# Altium footprint library Connector_Wuerth.PcbLib: 46 footprints (part 1 of 3)
Each footprint in its own frame and in the unit in brackets; x right, y up, seen from the top. Pads: shape width x height; smd on the part's side, far side on the other; paste and mask are expansions set on the pad; w line width, h text height; cw(c..) or ccw(c..) is an arc to the next point about the centre after c.
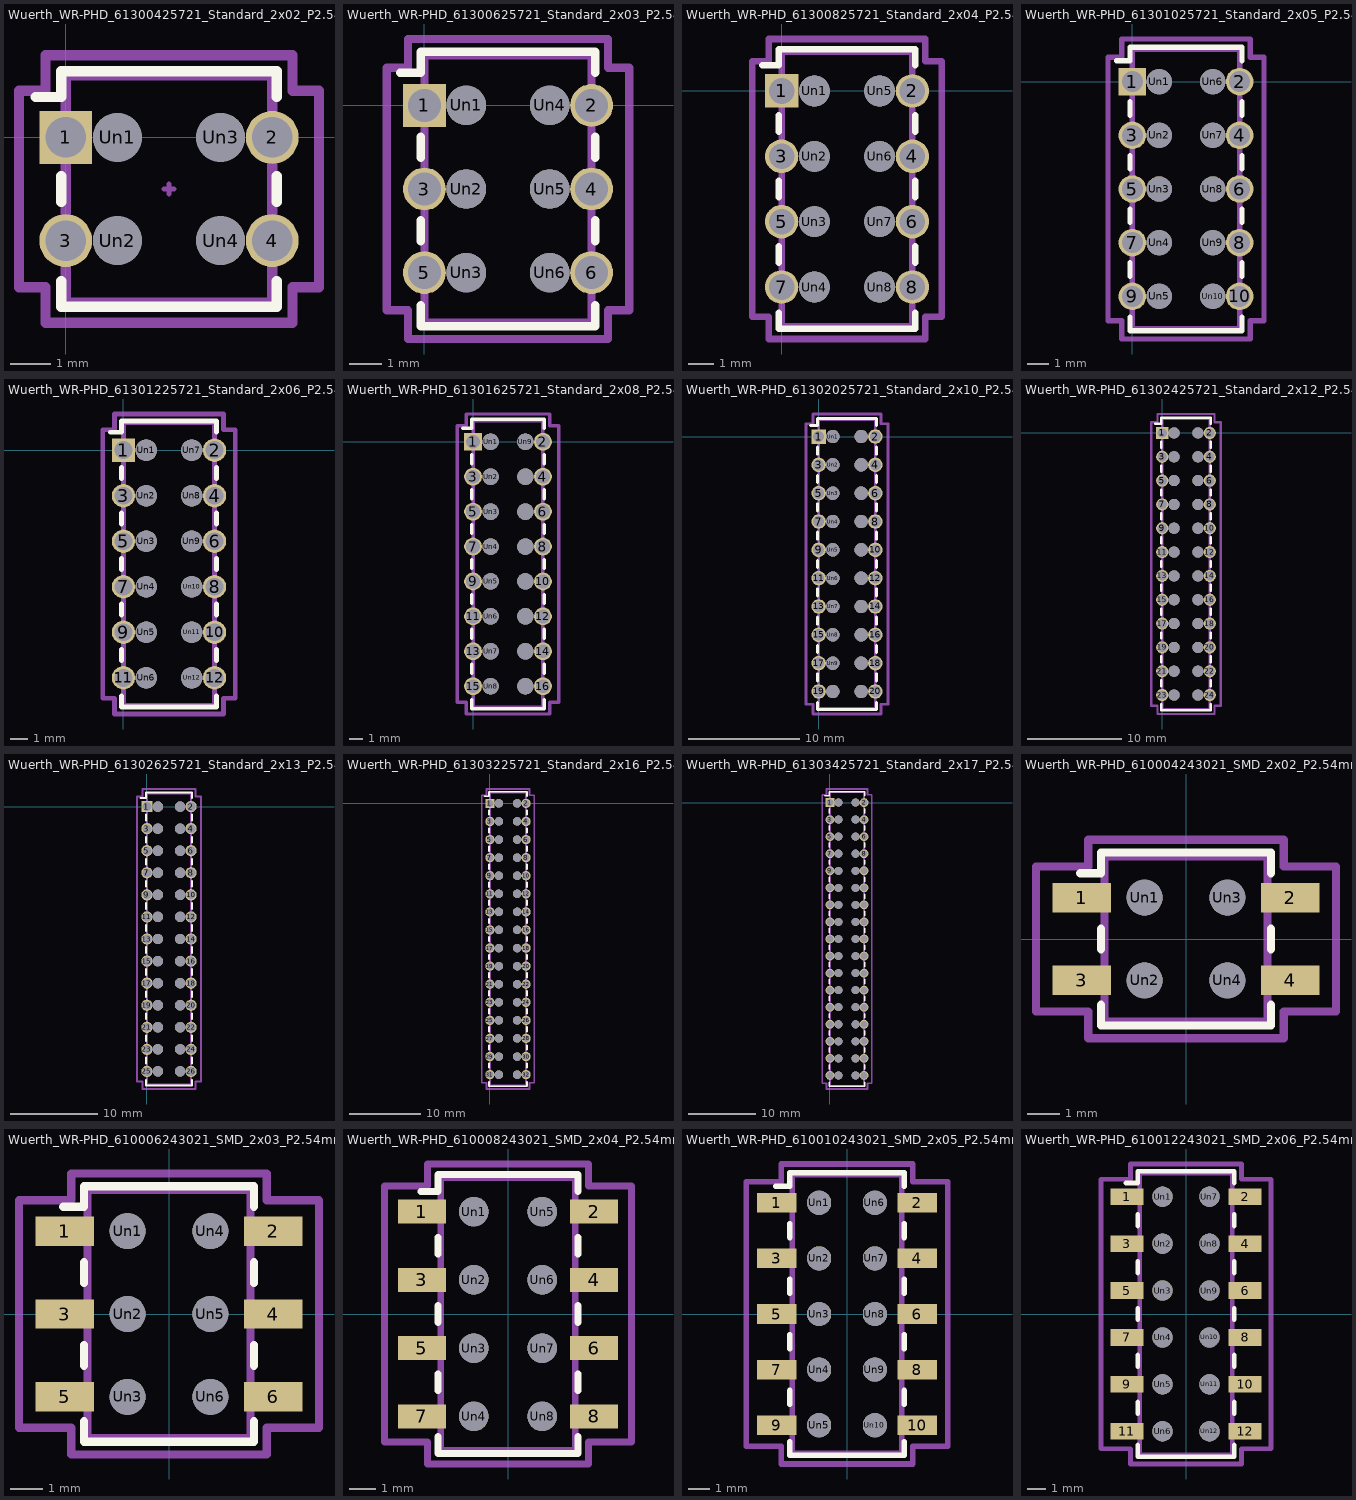
[diagram p0: the footprints below, top view; thin cyan lines are the x and y axes]

## Wuerth_WR-PHD_61300425721_Standard_2x02_P2.54mm_Vertical [mm]
pads (8):
  rect 1.3x1.3 hole 1: 1(0,0)
  round 1.3 hole 1: 2(5.08,0) 3(0,-2.54) 4(5.08,-2.54)
  round 1.2 hole 1.2: Un1(1.27,0) Un2(1.27,-2.54) Un3(3.81,0) Un4(3.81,-2.54)
F.SilkS:
  lines w0.254: -0.745,0.995 -0.11,0.995 -0.11,1.63 5.19,1.63 5.19,0.995 ; -0.11,-3.535 -0.11,-4.17 5.19,-4.17 5.19,-3.535 ; -0.11,-1.587 -0.11,-0.953 ; 5.19,-1.587 5.19,-0.953
Top Component Center:
  lines w0.127: 2.413,-1.27 2.667,-1.27 ; 2.54,-1.397 2.54,-1.143
Top Assembly:
  lines w0.254: 0,-4.06 5.08,-4.06 5.08,1.52 0,1.52 0,-4.06
  text "'.Designator'" at -1.507,-0.02 h1
Top Courtyard:
  lines w0.254: -1.15,-3.69 -0.5,-3.69 -0.5,-4.56 5.58,-4.56 5.58,-3.69 6.23,-3.69 6.23,1.15 5.58,1.15 5.58,2.02 -0.5,2.02 -0.5,1.15 -1.15,1.15 -1.15,-3.69
Top Designator:
  text ".Designator" at -5.228,-1.778 h1.52

## Wuerth_WR-PHD_61300625721_Standard_2x03_P2.54mm_Vertical [mm]
pads (12):
  rect 1.3x1.3 hole 1: 1(0,0)
  round 1.3 hole 1: 2(5.08,0) 3(0,-2.54) 4(5.08,-2.54) 5(0,-5.08) 6(5.08,-5.08)
  round 1.2 hole 1.2: Un1(1.27,0) Un2(1.27,-2.54) Un3(1.27,-5.08) Un4(3.81,0) Un5(3.81,-2.54) Un6(3.81,-5.08)
F.SilkS:
  lines w0.254: -0.745,0.995 -0.11,0.995 -0.11,1.63 5.19,1.63 5.19,0.995 ; -0.11,-6.075 -0.11,-6.71 5.19,-6.71 5.19,-6.075 ; -0.11,-4.127 -0.11,-3.492 ; -0.11,-1.587 -0.11,-0.953 ; 5.19,-4.127 5.19,-3.492 ; 5.19,-1.587 5.19,-0.953
Top Assembly:
  lines w0.254: 0,-6.6 5.08,-6.6 5.08,1.52 0,1.52 0,-6.6
  text "'.Designator'" at -1.507,-0.02 h1
Top Courtyard:
  lines w0.254: -1.15,-6.23 -0.5,-6.23 -0.5,-7.1 5.58,-7.1 5.58,-6.23 6.23,-6.23 6.23,1.15 5.58,1.15 5.58,2.02 -0.5,2.02 -0.5,1.15 -1.15,1.15 -1.15,-6.23
Top Designator:
  text ".Designator" at -5.228,-3.048 h1.52

## Wuerth_WR-PHD_61300825721_Standard_2x04_P2.54mm_Vertical [mm]
pads (16):
  rect 1.3x1.3 hole 1: 1(0,0)
  round 1.3 hole 1: 2(5.08,0) 3(0,-2.54) 4(5.08,-2.54) 5(0,-5.08) 6(5.08,-5.08) 7(0,-7.62) 8(5.08,-7.62)
  round 1.2 hole 1.2: Un1(1.27,0) Un2(1.27,-2.54) Un3(1.27,-5.08) Un4(1.27,-7.62) Un5(3.81,0) Un6(3.81,-2.54) Un7(3.81,-5.08) Un8(3.81,-7.62)
F.SilkS:
  lines w0.254: -0.745,0.995 -0.11,0.995 -0.11,1.63 5.19,1.63 5.19,0.995 ; -0.11,-8.615 -0.11,-9.25 5.19,-9.25 5.19,-8.615 ; -0.11,-6.667 -0.11,-6.032 ; -0.11,-4.127 -0.11,-3.492 ; -0.11,-1.587 -0.11,-0.953 ; 5.19,-6.667 5.19,-6.032 ; 5.19,-4.127 5.19,-3.492 ; 5.19,-1.587 5.19,-0.953
Top Assembly:
  lines w0.254: 0,-9.14 5.08,-9.14 5.08,1.52 0,1.52 0,-9.14
  text "'.Designator'" at -1.507,-0.02 h1
Top Courtyard:
  lines w0.254: -1.15,-8.77 -0.5,-8.77 -0.5,-9.64 5.58,-9.64 5.58,-8.77 6.23,-8.77 6.23,1.15 5.58,1.15 5.58,2.02 -0.5,2.02 -0.5,1.15 -1.15,1.15 -1.15,-8.77
Top Designator:
  text ".Designator" at -5.228,-4.318 h1.52

## Wuerth_WR-PHD_61301025721_Standard_2x05_P2.54mm_Vertical [mm]
pads (20):
  rect 1.3x1.3 hole 1: 1(0,0)
  round 1.3 hole 1: 2(5.08,0) 3(0,-2.54) 4(5.08,-2.54) 5(0,-5.08) 6(5.08,-5.08) 7(0,-7.62) 8(5.08,-7.62) 9(0,-10.16) 10(5.08,-10.16)
  round 1.2 hole 1.2: Un1(1.27,0) Un2(1.27,-2.54) Un3(1.27,-5.08) Un4(1.27,-7.62) Un5(1.27,-10.16) Un6(3.81,0) Un7(3.81,-2.54) Un8(3.81,-5.08) Un9(3.81,-7.62) Un10(3.81,-10.16)
F.SilkS:
  lines w0.254: -0.745,0.995 -0.11,0.995 -0.11,1.63 5.19,1.63 5.19,0.995 ; -0.11,-11.155 -0.11,-11.79 5.19,-11.79 5.19,-11.155 ; -0.11,-9.207 -0.11,-8.572 ; -0.11,-6.667 -0.11,-6.032 ; -0.11,-4.127 -0.11,-3.492 ; -0.11,-1.587 -0.11,-0.953 ; 5.19,-9.207 5.19,-8.572 ; 5.19,-6.667 5.19,-6.032 ; 5.19,-4.127 5.19,-3.492 ; 5.19,-1.587 5.19,-0.953
Top Assembly:
  lines w0.254: 0,-11.68 5.08,-11.68 5.08,1.52 0,1.52 0,-11.68
  text "'.Designator'" at -1.507,-0.02 h1
Top Courtyard:
  lines w0.254: -1.15,-11.31 -0.5,-11.31 -0.5,-12.18 5.58,-12.18 5.58,-11.31 6.23,-11.31 6.23,1.15 5.58,1.15 5.58,2.02 -0.5,2.02 -0.5,1.15 -1.15,1.15 -1.15,-11.31
Top Designator:
  text ".Designator" at -5.228,-5.588 h1.52

## Wuerth_WR-PHD_61301225721_Standard_2x06_P2.54mm_Vertical [mm]
pads (24):
  rect 1.3x1.3 hole 1: 1(0,0)
  round 1.3 hole 1: 2(5.08,0) 3(0,-2.54) 4(5.08,-2.54) 5(0,-5.08) 6(5.08,-5.08) 7(0,-7.62) 8(5.08,-7.62) 9(0,-10.16) 10(5.08,-10.16) 11(0,-12.7) 12(5.08,-12.7)
  round 1.2 hole 1.2: Un1(1.27,0) Un2(1.27,-2.54) Un3(1.27,-5.08) Un4(1.27,-7.62) Un5(1.27,-10.16) Un6(1.27,-12.7) Un7(3.81,0) Un8(3.81,-2.54) Un9(3.81,-5.08) Un10(3.81,-7.62) Un11(3.81,-10.16) Un12(3.81,-12.7)
F.SilkS:
  lines w0.254: -0.745,0.995 -0.11,0.995 -0.11,1.63 5.19,1.63 5.19,0.995 ; -0.11,-13.695 -0.11,-14.33 5.19,-14.33 5.19,-13.695 ; -0.11,-11.747 -0.11,-11.112 ; -0.11,-9.207 -0.11,-8.572 ; -0.11,-6.667 -0.11,-6.032 ; -0.11,-4.127 -0.11,-3.492 ; -0.11,-1.587 -0.11,-0.953 ; 5.19,-11.747 5.19,-11.112 ; 5.19,-9.207 5.19,-8.572 ; 5.19,-6.667 5.19,-6.032 ; 5.19,-4.127 5.19,-3.492 ; 5.19,-1.587 5.19,-0.953
Top Assembly:
  lines w0.254: 0,-14.22 5.08,-14.22 5.08,1.52 0,1.52 0,-14.22
  text "'.Designator'" at -1.507,-0.02 h1
Top Courtyard:
  lines w0.254: -1.15,-13.85 -0.5,-13.85 -0.5,-14.72 5.58,-14.72 5.58,-13.85 6.23,-13.85 6.23,1.15 5.58,1.15 5.58,2.02 -0.5,2.02 -0.5,1.15 -1.15,1.15 -1.15,-13.85
Top Designator:
  text ".Designator" at -5.228,-6.858 h1.52

## Wuerth_WR-PHD_61301625721_Standard_2x08_P2.54mm_Vertical [mm]
pads (32):
  rect 1.3x1.3 hole 1: 1(0,0)
  round 1.3 hole 1: 2(5.08,0) 3(0,-2.54) 4(5.08,-2.54) 5(0,-5.08) 6(5.08,-5.08) 7(0,-7.62) 8(5.08,-7.62) 9(0,-10.16) 10(5.08,-10.16) 11(0,-12.7) 12(5.08,-12.7) 13(0,-15.24) 14(5.08,-15.24) 15(0,-17.78) 16(5.08,-17.78)
  round 1.2 hole 1.2: Un1(1.27,0) Un2(1.27,-2.54) Un3(1.27,-5.08) Un4(1.27,-7.62) Un5(1.27,-10.16) Un6(1.27,-12.7) Un7(1.27,-15.24) Un8(1.27,-17.78) Un9(3.81,0) Un10(3.81,-2.54) Un11(3.81,-5.08) Un12(3.81,-7.62) Un13(3.81,-10.16) Un14(3.81,-12.7) Un15(3.81,-15.24) Un16(3.81,-17.78)
F.SilkS:
  lines w0.254: -0.745,0.995 -0.11,0.995 -0.11,1.63 5.19,1.63 5.19,0.995 ; -0.11,-18.775 -0.11,-19.41 5.19,-19.41 5.19,-18.775 ; -0.11,-16.828 -0.11,-16.192 ; -0.11,-14.287 -0.11,-13.652 ; -0.11,-11.747 -0.11,-11.112 ; -0.11,-9.207 -0.11,-8.572 ; -0.11,-6.667 -0.11,-6.032 ; -0.11,-4.127 -0.11,-3.492 ; -0.11,-1.587 -0.11,-0.953 ; 5.19,-16.828 5.19,-16.192 ; 5.19,-14.287 5.19,-13.652 ; 5.19,-11.747 5.19,-11.112 ; 5.19,-9.207 5.19,-8.572 ; 5.19,-6.667 5.19,-6.032 ; 5.19,-4.127 5.19,-3.492 ; 5.19,-1.587 5.19,-0.953
Top Assembly:
  lines w0.254: 0,-19.3 5.08,-19.3 5.08,1.52 0,1.52 0,-19.3
  text "'.Designator'" at -1.507,-0.02 h1
Top Courtyard:
  lines w0.254: -1.15,-18.93 -0.5,-18.93 -0.5,-19.8 5.58,-19.8 5.58,-18.93 6.23,-18.93 6.23,1.15 5.58,1.15 5.58,2.02 -0.5,2.02 -0.5,1.15 -1.15,1.15 -1.15,-18.93
Top Designator:
  text ".Designator" at -5.228,-9.398 h1.52

## Wuerth_WR-PHD_61302025721_Standard_2x10_P2.54mm_Vertical [mm]
pads (40):
  rect 1.3x1.3 hole 1: 1(0,0)
  round 1.3 hole 1: 2(5.08,0) 3(0,-2.54) 4(5.08,-2.54) 5(0,-5.08) 6(5.08,-5.08) 7(0,-7.62) 8(5.08,-7.62) 9(0,-10.16) 10(5.08,-10.16) 11(0,-12.7) 12(5.08,-12.7) 13(0,-15.24) 14(5.08,-15.24) 15(0,-17.78) 16(5.08,-17.78) 17(0,-20.32) 18(5.08,-20.32) 19(0,-22.86) 20(5.08,-22.86)
  round 1.2 hole 1.2: Un1(1.27,0) Un2(1.27,-2.54) Un3(1.27,-5.08) Un4(1.27,-7.62) Un5(1.27,-10.16) Un6(1.27,-12.7) Un7(1.27,-15.24) Un8(1.27,-17.78) Un9(1.27,-20.32) Un10(1.27,-22.86) Un11(3.81,0) Un12(3.81,-2.54) Un13(3.81,-5.08) Un14(3.81,-7.62) Un15(3.81,-10.16) Un16(3.81,-12.7) Un17(3.81,-15.24) Un18(3.81,-17.78) Un19(3.81,-20.32) Un20(3.81,-22.86)
F.SilkS:
  lines w0.254: -0.745,0.995 -0.11,0.995 -0.11,1.63 5.19,1.63 5.19,0.995 ; -0.11,-23.855 -0.11,-24.49 5.19,-24.49 5.19,-23.855 ; -0.11,-21.907 -0.11,-21.273 ; -0.11,-19.367 -0.11,-18.732 ; -0.11,-16.828 -0.11,-16.192 ; -0.11,-14.287 -0.11,-13.652 ; -0.11,-11.747 -0.11,-11.112 ; -0.11,-9.207 -0.11,-8.572 ; -0.11,-6.667 -0.11,-6.032 ; -0.11,-4.127 -0.11,-3.492 ; -0.11,-1.587 -0.11,-0.953 ; 5.19,-21.907 5.19,-21.273 ; 5.19,-19.367 5.19,-18.732 ; 5.19,-16.828 5.19,-16.192 ; 5.19,-14.287 5.19,-13.652 ; 5.19,-11.747 5.19,-11.112 ; 5.19,-9.207 5.19,-8.572 ; 5.19,-6.667 5.19,-6.032 ; 5.19,-4.127 5.19,-3.492 ; 5.19,-1.587 5.19,-0.953
Top Assembly:
  lines w0.254: 0,-24.38 5.08,-24.38 5.08,1.52 0,1.52 0,-24.38
  text "'.Designator'" at -1.507,-0.02 h1
Top Courtyard:
  lines w0.254: -1.15,-24.01 -0.5,-24.01 -0.5,-24.88 5.58,-24.88 5.58,-24.01 6.23,-24.01 6.23,1.15 5.58,1.15 5.58,2.02 -0.5,2.02 -0.5,1.15 -1.15,1.15 -1.15,-24.01
Top Designator:
  text ".Designator" at -5.228,-11.938 h1.52

## Wuerth_WR-PHD_61302425721_Standard_2x12_P2.54mm_Vertical [mm]
pads (48):
  rect 1.3x1.3 hole 1: 1(0,0)
  round 1.3 hole 1: 2(5.08,0) 3(0,-2.54) 4(5.08,-2.54) 5(0,-5.08) 6(5.08,-5.08) 7(0,-7.62) 8(5.08,-7.62) 9(0,-10.16) 10(5.08,-10.16) 11(0,-12.7) 12(5.08,-12.7) 13(0,-15.24) 14(5.08,-15.24) 15(0,-17.78) 16(5.08,-17.78) 17(0,-20.32) 18(5.08,-20.32) 19(0,-22.86) 20(5.08,-22.86) 21(0,-25.4) 22(5.08,-25.4) 23(0,-27.94) 24(5.08,-27.94)
  round 1.2 hole 1.2: Un1(1.27,0) Un2(1.27,-2.54) Un3(1.27,-5.08) Un4(1.27,-7.62) Un5(1.27,-10.16) Un6(1.27,-12.7) Un7(1.27,-15.24) Un8(1.27,-17.78) Un9(1.27,-20.32) Un10(1.27,-22.86) Un11(1.27,-25.4) Un12(1.27,-27.94) Un13(3.81,0) Un14(3.81,-2.54) Un15(3.81,-5.08) Un16(3.81,-7.62) Un17(3.81,-10.16) Un18(3.81,-12.7) Un19(3.81,-15.24) Un20(3.81,-17.78) Un21(3.81,-20.32) Un22(3.81,-22.86) Un23(3.81,-25.4) Un24(3.81,-27.94)
F.SilkS:
  lines w0.254: -0.745,0.995 -0.11,0.995 -0.11,1.63 5.19,1.63 5.19,0.995 ; -0.11,-28.935 -0.11,-29.57 5.19,-29.57 5.19,-28.935 ; -0.11,-26.987 -0.11,-26.352 ; -0.11,-24.447 -0.11,-23.812 ; -0.11,-21.907 -0.11,-21.273 ; -0.11,-19.367 -0.11,-18.732 ; -0.11,-16.828 -0.11,-16.192 ; -0.11,-14.287 -0.11,-13.652 ; -0.11,-11.747 -0.11,-11.112 ; -0.11,-9.207 -0.11,-8.572 ; -0.11,-6.667 -0.11,-6.032 ; -0.11,-4.127 -0.11,-3.492 ; -0.11,-1.587 -0.11,-0.953 ; 5.19,-26.987 5.19,-26.352 ; 5.19,-24.447 5.19,-23.812 ; 5.19,-21.907 5.19,-21.273 ; 5.19,-19.367 5.19,-18.732 ; 5.19,-16.828 5.19,-16.192 ; 5.19,-14.287 5.19,-13.652 ; 5.19,-11.747 5.19,-11.112 ; 5.19,-9.207 5.19,-8.572 ; 5.19,-6.667 5.19,-6.032 ; 5.19,-4.127 5.19,-3.492 ; 5.19,-1.587 5.19,-0.953
Top Assembly:
  lines w0.254: 0,-29.46 5.08,-29.46 5.08,1.52 0,1.52 0,-29.46
  text "'.Designator'" at -1.507,-0.02 h1
Top Courtyard:
  lines w0.254: -1.15,-29.09 -0.5,-29.09 -0.5,-29.96 5.58,-29.96 5.58,-29.09 6.23,-29.09 6.23,1.15 5.58,1.15 5.58,2.02 -0.5,2.02 -0.5,1.15 -1.15,1.15 -1.15,-29.09
Top Designator:
  text ".Designator" at -5.228,-14.478 h1.52

## Wuerth_WR-PHD_61302625721_Standard_2x13_P2.54mm_Vertical [mm]
pads (52):
  rect 1.3x1.3 hole 1: 1(0,0)
  round 1.3 hole 1: 2(5.08,0) 3(0,-2.54) 4(5.08,-2.54) 5(0,-5.08) 6(5.08,-5.08) 7(0,-7.62) 8(5.08,-7.62) 9(0,-10.16) 10(5.08,-10.16) 11(0,-12.7) 12(5.08,-12.7) 13(0,-15.24) 14(5.08,-15.24) 15(0,-17.78) 16(5.08,-17.78) 17(0,-20.32) 18(5.08,-20.32) 19(0,-22.86) 20(5.08,-22.86) 21(0,-25.4) 22(5.08,-25.4) 23(0,-27.94) 24(5.08,-27.94) 25(0,-30.48) 26(5.08,-30.48)
  round 1.2 hole 1.2: Un1(1.27,0) Un2(1.27,-2.54) Un3(1.27,-5.08) Un4(1.27,-7.62) Un5(1.27,-10.16) Un6(1.27,-12.7) Un7(1.27,-15.24) Un8(1.27,-17.78) Un9(1.27,-20.32) Un10(1.27,-22.86) Un11(1.27,-25.4) Un12(1.27,-27.94) Un13(1.27,-30.48) Un14(3.81,0) Un15(3.81,-2.54) Un16(3.81,-5.08) Un17(3.81,-7.62) Un18(3.81,-10.16) Un19(3.81,-12.7) Un20(3.81,-15.24) Un21(3.81,-17.78) Un22(3.81,-20.32) Un23(3.81,-22.86) Un24(3.81,-25.4) Un25(3.81,-27.94) Un26(3.81,-30.48)
F.SilkS:
  lines w0.254: -0.745,0.995 -0.11,0.995 -0.11,1.63 5.19,1.63 5.19,0.995 ; -0.11,-31.475 -0.11,-32.11 5.19,-32.11 5.19,-31.475 ; -0.11,-29.527 -0.11,-28.892 ; -0.11,-26.987 -0.11,-26.352 ; -0.11,-24.447 -0.11,-23.812 ; -0.11,-21.907 -0.11,-21.273 ; -0.11,-19.367 -0.11,-18.732 ; -0.11,-16.828 -0.11,-16.192 ; -0.11,-14.287 -0.11,-13.652 ; -0.11,-11.747 -0.11,-11.112 ; -0.11,-9.207 -0.11,-8.572 ; -0.11,-6.667 -0.11,-6.032 ; -0.11,-4.127 -0.11,-3.492 ; -0.11,-1.587 -0.11,-0.953 ; 5.19,-29.527 5.19,-28.892 ; 5.19,-26.987 5.19,-26.352 ; 5.19,-24.447 5.19,-23.812 ; 5.19,-21.907 5.19,-21.273 ; 5.19,-19.367 5.19,-18.732 ; 5.19,-16.828 5.19,-16.192 ; 5.19,-14.287 5.19,-13.652 ; 5.19,-11.747 5.19,-11.112 ; 5.19,-9.207 5.19,-8.572 ; 5.19,-6.667 5.19,-6.032 ; 5.19,-4.127 5.19,-3.492 ; 5.19,-1.587 5.19,-0.953
Top Assembly:
  lines w0.254: 0,-32 5.08,-32 5.08,1.52 0,1.52 0,-32
  text "'.Designator'" at -1.507,-0.02 h1
Top Courtyard:
  lines w0.254: -1.15,-31.63 -0.5,-31.63 -0.5,-32.5 5.58,-32.5 5.58,-31.63 6.23,-31.63 6.23,1.15 5.58,1.15 5.58,2.02 -0.5,2.02 -0.5,1.15 -1.15,1.15 -1.15,-31.63
Top Designator:
  text ".Designator" at -5.228,-15.748 h1.52

## Wuerth_WR-PHD_61303225721_Standard_2x16_P2.54mm_Vertical [mm]
pads (64):
  rect 1.3x1.3 hole 1: 1(0,0)
  round 1.3 hole 1: 2(5.08,0) 3(0,-2.54) 4(5.08,-2.54) 5(0,-5.08) 6(5.08,-5.08) 7(0,-7.62) 8(5.08,-7.62) 9(0,-10.16) 10(5.08,-10.16) 11(0,-12.7) 12(5.08,-12.7) 13(0,-15.24) 14(5.08,-15.24) 15(0,-17.78) 16(5.08,-17.78) 17(0,-20.32) 18(5.08,-20.32) 19(0,-22.86) 20(5.08,-22.86) 21(0,-25.4) 22(5.08,-25.4) 23(0,-27.94) 24(5.08,-27.94) 25(0,-30.48) 26(5.08,-30.48) 27(0,-33.02) 28(5.08,-33.02) 29(0,-35.56) 30(5.08,-35.56) 31(0,-38.1) 32(5.08,-38.1)
  round 1.2 hole 1.2: Un1(1.27,0) Un2(1.27,-2.54) Un3(1.27,-5.08) Un4(1.27,-7.62) Un5(1.27,-10.16) Un6(1.27,-12.7) Un7(1.27,-15.24) Un8(1.27,-17.78) Un9(1.27,-20.32) Un10(1.27,-22.86) Un11(1.27,-25.4) Un12(1.27,-27.94) Un13(1.27,-30.48) Un14(1.27,-33.02) Un15(1.27,-35.56) Un16(1.27,-38.1) Un17(3.81,0) Un18(3.81,-2.54) Un19(3.81,-5.08) Un20(3.81,-7.62) Un21(3.81,-10.16) Un22(3.81,-12.7) Un23(3.81,-15.24) Un24(3.81,-17.78) Un25(3.81,-20.32) Un26(3.81,-22.86) Un27(3.81,-25.4) Un28(3.81,-27.94) Un29(3.81,-30.48) Un30(3.81,-33.02) Un31(3.81,-35.56) Un32(3.81,-38.1)
F.SilkS:
  lines w0.254: -0.745,0.995 -0.11,0.995 -0.11,1.63 5.19,1.63 5.19,0.995 ; -0.11,-39.095 -0.11,-39.73 5.19,-39.73 5.19,-39.095 ; -0.11,-37.148 -0.11,-36.512 ; -0.11,-34.608 -0.11,-33.972 ; -0.11,-32.067 -0.11,-31.432 ; -0.11,-29.527 -0.11,-28.892 ; -0.11,-26.987 -0.11,-26.352 ; -0.11,-24.447 -0.11,-23.812 ; -0.11,-21.907 -0.11,-21.273 ; -0.11,-19.367 -0.11,-18.732 ; -0.11,-16.828 -0.11,-16.192 ; -0.11,-14.287 -0.11,-13.652 ; -0.11,-11.747 -0.11,-11.112 ; -0.11,-9.207 -0.11,-8.572 ; -0.11,-6.667 -0.11,-6.032 ; -0.11,-4.127 -0.11,-3.492 ; -0.11,-1.587 -0.11,-0.953 ; 5.19,-37.148 5.19,-36.512 ; 5.19,-34.608 5.19,-33.972 ; 5.19,-32.067 5.19,-31.432 ; 5.19,-29.527 5.19,-28.892 ; 5.19,-26.987 5.19,-26.352 ; 5.19,-24.447 5.19,-23.812 ; 5.19,-21.907 5.19,-21.273 ; 5.19,-19.367 5.19,-18.732 ; 5.19,-16.828 5.19,-16.192 ; 5.19,-14.287 5.19,-13.652 ; 5.19,-11.747 5.19,-11.112 ; 5.19,-9.207 5.19,-8.572 ; 5.19,-6.667 5.19,-6.032 ; 5.19,-4.127 5.19,-3.492 ; 5.19,-1.587 5.19,-0.953
Top Assembly:
  lines w0.254: 0,-39.62 5.08,-39.62 5.08,1.52 0,1.52 0,-39.62
  text "'.Designator'" at -1.507,-0.02 h1
Top Courtyard:
  lines w0.254: -1.15,-39.25 -0.5,-39.25 -0.5,-40.12 5.58,-40.12 5.58,-39.25 6.23,-39.25 6.23,1.15 5.58,1.15 5.58,2.02 -0.5,2.02 -0.5,1.15 -1.15,1.15 -1.15,-39.25
Top Designator:
  text ".Designator" at -5.228,-19.558 h1.52

## Wuerth_WR-PHD_61303425721_Standard_2x17_P2.54mm_Vertical [mm]
pads (68):
  rect 1.3x1.3 hole 1: 1(0,0)
  round 1.3 hole 1: 2(5.08,0) 3(0,-2.54) 4(5.08,-2.54) 5(0,-5.08) 6(5.08,-5.08) 7(0,-7.62) 8(5.08,-7.62) 9(0,-10.16) 10(5.08,-10.16) 11(0,-12.7) 12(5.08,-12.7) 13(0,-15.24) 14(5.08,-15.24) 15(0,-17.78) 16(5.08,-17.78) 17(0,-20.32) 18(5.08,-20.32) 19(0,-22.86) 20(5.08,-22.86) 21(0,-25.4) 22(5.08,-25.4) 23(0,-27.94) 24(5.08,-27.94) 25(0,-30.48) 26(5.08,-30.48) 27(0,-33.02) 28(5.08,-33.02) 29(0,-35.56) 30(5.08,-35.56) 31(0,-38.1) 32(5.08,-38.1) 33(0,-40.64) 34(5.08,-40.64)
  round 1.2 hole 1.2: Un1(1.27,0) Un2(1.27,-2.54) Un3(1.27,-5.08) Un4(1.27,-7.62) Un5(1.27,-10.16) Un6(1.27,-12.7) Un7(1.27,-15.24) Un8(1.27,-17.78) Un9(1.27,-20.32) Un10(1.27,-22.86) Un11(1.27,-25.4) Un12(1.27,-27.94) Un13(1.27,-30.48) Un14(1.27,-33.02) Un15(1.27,-35.56) Un16(1.27,-38.1) Un17(1.27,-40.64) Un18(3.81,0) Un19(3.81,-2.54) Un20(3.81,-5.08) Un21(3.81,-7.62) Un22(3.81,-10.16) Un23(3.81,-12.7) Un24(3.81,-15.24) Un25(3.81,-17.78) Un26(3.81,-20.32) Un27(3.81,-22.86) Un28(3.81,-25.4) Un29(3.81,-27.94) Un30(3.81,-30.48) Un31(3.81,-33.02) Un32(3.81,-35.56) Un33(3.81,-38.1) Un34(3.81,-40.64)
F.SilkS:
  lines w0.254: -0.745,0.995 -0.11,0.995 -0.11,1.63 5.19,1.63 5.19,0.995 ; -0.11,-41.635 -0.11,-42.27 5.19,-42.27 5.19,-41.635 ; -0.11,-39.688 -0.11,-39.052 ; -0.11,-37.148 -0.11,-36.512 ; -0.11,-34.608 -0.11,-33.972 ; -0.11,-32.067 -0.11,-31.432 ; -0.11,-29.527 -0.11,-28.892 ; -0.11,-26.987 -0.11,-26.352 ; -0.11,-24.447 -0.11,-23.812 ; -0.11,-21.907 -0.11,-21.273 ; -0.11,-19.367 -0.11,-18.732 ; -0.11,-16.828 -0.11,-16.192 ; -0.11,-14.287 -0.11,-13.652 ; -0.11,-11.747 -0.11,-11.112 ; -0.11,-9.207 -0.11,-8.572 ; -0.11,-6.667 -0.11,-6.032 ; -0.11,-4.127 -0.11,-3.492 ; -0.11,-1.587 -0.11,-0.953 ; 5.19,-39.688 5.19,-39.052 ; 5.19,-37.148 5.19,-36.512 ; 5.19,-34.608 5.19,-33.972 ; 5.19,-32.067 5.19,-31.432 ; 5.19,-29.527 5.19,-28.892 ; 5.19,-26.987 5.19,-26.352 ; 5.19,-24.447 5.19,-23.812 ; 5.19,-21.907 5.19,-21.273 ; 5.19,-19.367 5.19,-18.732 ; 5.19,-16.828 5.19,-16.192 ; 5.19,-14.287 5.19,-13.652 ; 5.19,-11.747 5.19,-11.112 ; 5.19,-9.207 5.19,-8.572 ; 5.19,-6.667 5.19,-6.032 ; 5.19,-4.127 5.19,-3.492 ; 5.19,-1.587 5.19,-0.953
Top Assembly:
  lines w0.254: 0,-42.16 5.08,-42.16 5.08,1.52 0,1.52 0,-42.16
  text "'.Designator'" at -1.507,-0.02 h1
Top Courtyard:
  lines w0.254: -1.15,-41.79 -0.5,-41.79 -0.5,-42.66 5.58,-42.66 5.58,-41.79 6.23,-41.79 6.23,1.15 5.58,1.15 5.58,2.02 -0.5,2.02 -0.5,1.15 -1.15,1.15 -1.15,-41.79
Top Designator:
  text ".Designator" at -5.228,-20.828 h1.52

## Wuerth_WR-PHD_610004243021_SMD_2x02_P2.54mm_Vertical [mm]
pads (8):
  rect 1.8x0.9 smd: 1(-3.2,1.27) 2(3.2,1.27) 3(-3.2,-1.27) 4(3.2,-1.27)
  round 1.1 hole 1.1: Un1(-1.27,1.27) Un2(-1.27,-1.27) Un3(1.27,1.27) Un4(1.27,-1.27)
F.SilkS:
  lines w0.254: -3.245,2.015 -2.61,2.015 -2.61,2.65 2.61,2.65 2.61,2.015 ; -2.61,-2.015 -2.61,-2.65 2.61,-2.65 2.61,-2.015 ; -2.61,-0.318 -2.61,0.318 ; 2.61,-0.318 2.61,0.318
Top Assembly:
  lines w0.254: -2.5,-2.54 2.5,-2.54 2.5,2.54 -2.5,2.54 -2.5,-2.54
  text "'.Designator'" at -4.047,1 h1
Top Courtyard:
  lines w0.254: -4.6,-2.22 -3,-2.22 -3,-3.04 3,-3.04 3,-2.22 4.6,-2.22 4.6,2.22 3,2.22 3,3.04 -3,3.04 -3,2.22 -4.6,2.22 -4.6,-2.22
Top Designator:
  text ".Designator" at -7.618,-0.508 h1.52

## Wuerth_WR-PHD_610006243021_SMD_2x03_P2.54mm_Vertical [mm]
pads (12):
  rect 1.8x0.9 smd: 1(-3.2,2.54) 2(3.2,2.54) 3(-3.2,0) 4(3.2,0) 5(-3.2,-2.54) 6(3.2,-2.54)
  round 1.1 hole 1.1: Un1(-1.27,2.54) Un2(-1.27,0) Un3(-1.27,-2.54) Un4(1.27,2.54) Un5(1.27,0) Un6(1.27,-2.54)
F.SilkS:
  lines w0.254: -3.245,3.285 -2.61,3.285 -2.61,3.92 2.61,3.92 2.61,3.285 ; -2.61,-3.285 -2.61,-3.92 2.61,-3.92 2.61,-3.285 ; -2.61,-1.587 -2.61,-0.953 ; -2.61,0.953 -2.61,1.587 ; 2.61,-1.587 2.61,-0.953 ; 2.61,0.953 2.61,1.587
Top Assembly:
  lines w0.254: -2.5,-3.81 2.5,-3.81 2.5,3.81 -2.5,3.81 -2.5,-3.81
  text "'.Designator'" at -4.047,2.27 h1
Top Courtyard:
  lines w0.254: -4.6,-3.49 -3,-3.49 -3,-4.31 3,-4.31 3,-3.49 4.6,-3.49 4.6,3.49 3,3.49 3,4.31 -3,4.31 -3,3.49 -4.6,3.49 -4.6,-3.49
Top Designator:
  text ".Designator" at -7.618,-0.508 h1.52

## Wuerth_WR-PHD_610008243021_SMD_2x04_P2.54mm_Vertical [mm]
pads (16):
  rect 1.8x0.9 smd: 1(-3.2,3.81) 2(3.2,3.81) 3(-3.2,1.27) 4(3.2,1.27) 5(-3.2,-1.27) 6(3.2,-1.27) 7(-3.2,-3.81) 8(3.2,-3.81)
  round 1.1 hole 1.1: Un1(-1.27,3.81) Un2(-1.27,1.27) Un3(-1.27,-1.27) Un4(-1.27,-3.81) Un5(1.27,3.81) Un6(1.27,1.27) Un7(1.27,-1.27) Un8(1.27,-3.81)
F.SilkS:
  lines w0.254: -3.245,4.555 -2.61,4.555 -2.61,5.19 2.61,5.19 2.61,4.555 ; -2.61,-4.555 -2.61,-5.19 2.61,-5.19 2.61,-4.555 ; -2.61,-2.857 -2.61,-2.222 ; -2.61,-0.318 -2.61,0.318 ; -2.61,2.222 -2.61,2.857 ; 2.61,-2.857 2.61,-2.222 ; 2.61,-0.318 2.61,0.318 ; 2.61,2.222 2.61,2.857
Top Assembly:
  lines w0.254: -2.5,-5.08 2.5,-5.08 2.5,5.08 -2.5,5.08 -2.5,-5.08
  text "'.Designator'" at -4.047,3.54 h1
Top Courtyard:
  lines w0.254: -4.6,-4.76 -3,-4.76 -3,-5.58 3,-5.58 3,-4.76 4.6,-4.76 4.6,4.76 3,4.76 3,5.58 -3,5.58 -3,4.76 -4.6,4.76 -4.6,-4.76
Top Designator:
  text ".Designator" at -7.618,-0.508 h1.52

## Wuerth_WR-PHD_610010243021_SMD_2x05_P2.54mm_Vertical [mm]
pads (20):
  rect 1.8x0.9 smd: 1(-3.2,5.08) 2(3.2,5.08) 3(-3.2,2.54) 4(3.2,2.54) 5(-3.2,0) 6(3.2,0) 7(-3.2,-2.54) 8(3.2,-2.54) 9(-3.2,-5.08) 10(3.2,-5.08)
  round 1.1 hole 1.1: Un1(-1.27,5.08) Un2(-1.27,2.54) Un3(-1.27,0) Un4(-1.27,-2.54) Un5(-1.27,-5.08) Un6(1.27,5.08) Un7(1.27,2.54) Un8(1.27,0) Un9(1.27,-2.54) Un10(1.27,-5.08)
F.SilkS:
  lines w0.254: -3.245,5.825 -2.61,5.825 -2.61,6.46 2.61,6.46 2.61,5.825 ; -2.61,-5.825 -2.61,-6.46 2.61,-6.46 2.61,-5.825 ; -2.61,-4.127 -2.61,-3.492 ; -2.61,-1.587 -2.61,-0.953 ; -2.61,0.953 -2.61,1.587 ; -2.61,3.492 -2.61,4.127 ; 2.61,-4.127 2.61,-3.492 ; 2.61,-1.587 2.61,-0.953 ; 2.61,0.953 2.61,1.587 ; 2.61,3.492 2.61,4.127
Top Assembly:
  lines w0.254: -2.5,-6.35 2.5,-6.35 2.5,6.35 -2.5,6.35 -2.5,-6.35
  text "'.Designator'" at -4.047,4.81 h1
Top Courtyard:
  lines w0.254: -4.6,-6.03 -3,-6.03 -3,-6.85 3,-6.85 3,-6.03 4.6,-6.03 4.6,6.03 3,6.03 3,6.85 -3,6.85 -3,6.03 -4.6,6.03 -4.6,-6.03
Top Designator:
  text ".Designator" at -7.618,-0.508 h1.52

## Wuerth_WR-PHD_610012243021_SMD_2x06_P2.54mm_Vertical [mm]
pads (24):
  rect 1.8x0.9 smd: 1(-3.2,6.35) 2(3.2,6.35) 3(-3.2,3.81) 4(3.2,3.81) 5(-3.2,1.27) 6(3.2,1.27) 7(-3.2,-1.27) 8(3.2,-1.27) 9(-3.2,-3.81) 10(3.2,-3.81) 11(-3.2,-6.35) 12(3.2,-6.35)
  round 1.1 hole 1.1: Un1(-1.27,6.35) Un2(-1.27,3.81) Un3(-1.27,1.27) Un4(-1.27,-1.27) Un5(-1.27,-3.81) Un6(-1.27,-6.35) Un7(1.27,6.35) Un8(1.27,3.81) Un9(1.27,1.27) Un10(1.27,-1.27) Un11(1.27,-3.81) Un12(1.27,-6.35)
F.SilkS:
  lines w0.254: -3.245,7.095 -2.61,7.095 -2.61,7.73 2.61,7.73 2.61,7.095 ; -2.61,-7.095 -2.61,-7.73 2.61,-7.73 2.61,-7.095 ; -2.61,-5.397 -2.61,-4.763 ; -2.61,-2.857 -2.61,-2.222 ; -2.61,-0.318 -2.61,0.318 ; -2.61,2.222 -2.61,2.857 ; -2.61,4.763 -2.61,5.397 ; 2.61,-5.397 2.61,-4.763 ; 2.61,-2.857 2.61,-2.222 ; 2.61,-0.318 2.61,0.318 ; 2.61,2.222 2.61,2.857 ; 2.61,4.763 2.61,5.397
Top Assembly:
  lines w0.254: -2.5,-7.62 2.5,-7.62 2.5,7.62 -2.5,7.62 -2.5,-7.62
  text "'.Designator'" at -4.047,6.08 h1
Top Courtyard:
  lines w0.254: -4.6,-7.3 -3,-7.3 -3,-8.12 3,-8.12 3,-7.3 4.6,-7.3 4.6,7.3 3,7.3 3,8.12 -3,8.12 -3,7.3 -4.6,7.3 -4.6,-7.3
Top Designator:
  text ".Designator" at -7.618,-0.508 h1.52